# Altium footprint library PG4D.PcbLib: 37 footprints (part 3 of 3)
Each footprint in its own frame and in the unit in brackets; x right, y up, seen from the top. Pads: shape width x height; smd on the part's side, far side on the other; paste and mask are expansions set on the pad; w line width, h text height; cw(c..) or ccw(c..) is an arc to the next point about the centre after c.
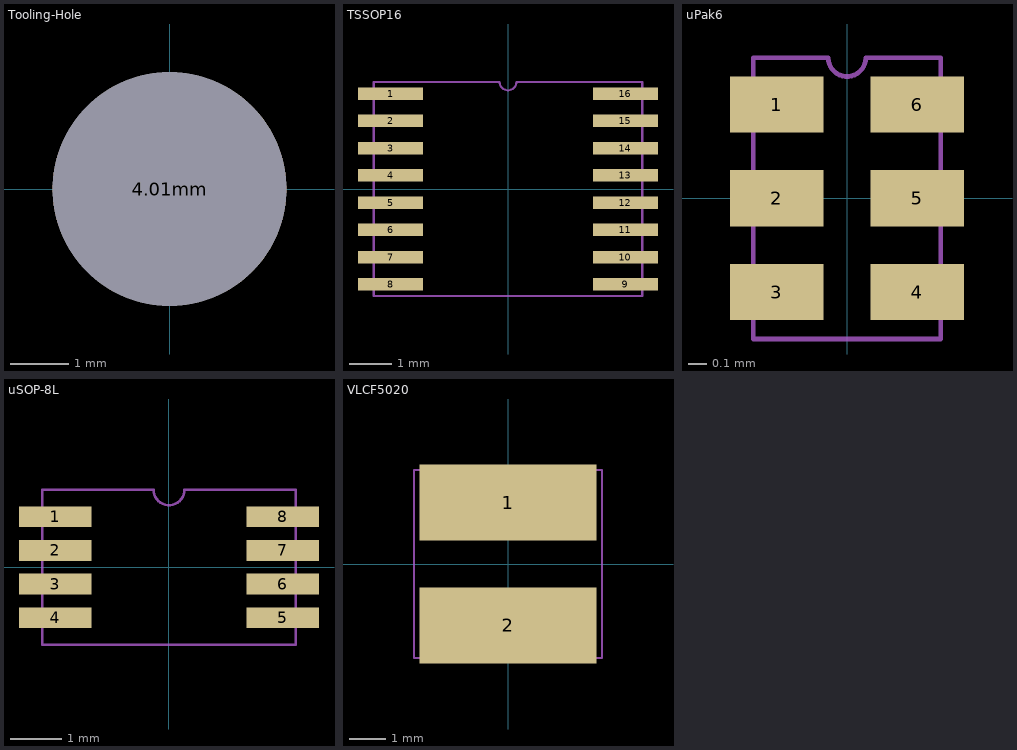
[diagram p2: the footprints below, top view; thin cyan lines are the x and y axes]

## Tooling-Hole [mm] "Tooling Hole 4.01mm"
height 0.035
pads (1):
  round 4.013 hole 4.013 unplated mask+0: 4.01mm(0,0)
Top Solder:
  circle w0.203: c-0.01,0 r2.575
Bottom Solder:
  circle w0.203: c-0.01,0 r2.575
Multi-Layer:
  circle w0.203: c0,0 r2.26

## TSSOP16 [mm] "16-Leads TSSOP package 0.65 mm pitch"
height 1.2
pads (16):
  rect 1.55x0.3 smd: 1(-2.8,2.275) 2(-2.8,1.625) 3(-2.8,0.975) 4(-2.8,0.325) 5(-2.8,-0.325) 6(-2.8,-0.975) 7(-2.8,-1.625) 8(-2.8,-2.275) 9(2.8,-2.275) 10(2.8,-1.625) 11(2.8,-0.975) 12(2.8,-0.325) 13(2.8,0.325) 14(2.8,0.975) 15(2.8,1.625) 16(2.8,2.275)
Top Assy:
  lines w0.05: -0.2,2.55 ccw(c0,2.55) 0.2,2.55 3.2,2.55 3.2,-2.55 -3.2,-2.55 -3.2,2.55 -0.2,2.55 ; -0.2,2.55 -0.2,2.55
  text "16" at 3.65,2.15 h0.4
  text "9" at 3.65,-2.4 h0.4
  text "8" at -3.8,-2.4 h0.4
  text "1" at -3.75,2.15 h0.4
3D body: height 1.2, standoff 0, extent -3.2,-2.55 3.2,2.55

## uPak6 [mm] "6-Lead MicroPak 1.00mm wide"
height 0.55
pads (6):
  rect 0.5x0.3 smd: 1(-0.375,0.5) 2(-0.375,0) 3(-0.375,-0.5) 4(0.375,-0.5) 5(0.375,0) 6(0.375,0.5)
Top Assy:
  lines w0.025: -0.5,-0.75 -0.5,0.75 -0.1,0.75 ccw(c0,0.75) 0.1,0.75 0.5,0.75 0.5,-0.75 -0.5,-0.75
  text "1" at -0.75,0.4 h0.3
3D body: height 0.55, standoff 0, extent -0.5,-0.75 0.5,0.75

## uSOP-8L [mm] "8-Lead uSOP 3mm x 3 mm package"
height 1.1
pads (8):
  rect 1.4x0.4 smd: 1(-2.2,0.975) 2(-2.2,0.325) 3(-2.2,-0.325) 4(-2.2,-0.975) 5(2.2,-0.975) 6(2.2,-0.325) 7(2.2,0.325) 8(2.2,0.975)
Top Assy:
  lines w0.05: -2.45,-1.5 -2.45,1.5 -0.3,1.5 ccw(c0,1.5) 0.3,1.5 2.45,1.5 2.45,-1.5 -2.45,-1.5
  text "1" at -3.1,0.8 h0.5
3D body: height 1.15, standoff 0, extent -2.45,-1.5 2.45,1.5

## VLCF5020 [mm] "2-Leads SMD Inductor"
height 2
pads (2):
  rect 4.9x2.1 smd: 1(0,1.7) 2(0,-1.7)
Top Assy:
  lines w0.05: -2.6,-2.6 -2.6,2.6 2.6,2.6 2.6,-2.6 -2.6,-2.6
3D body: height 2, standoff 0, extent -2.6,-2.6 2.6,2.6